# Altium integrated library Linear Technology Power Management Switching Regulator LT1074-LT8705.IntLib: 2252 symbols (part 118 of 148)
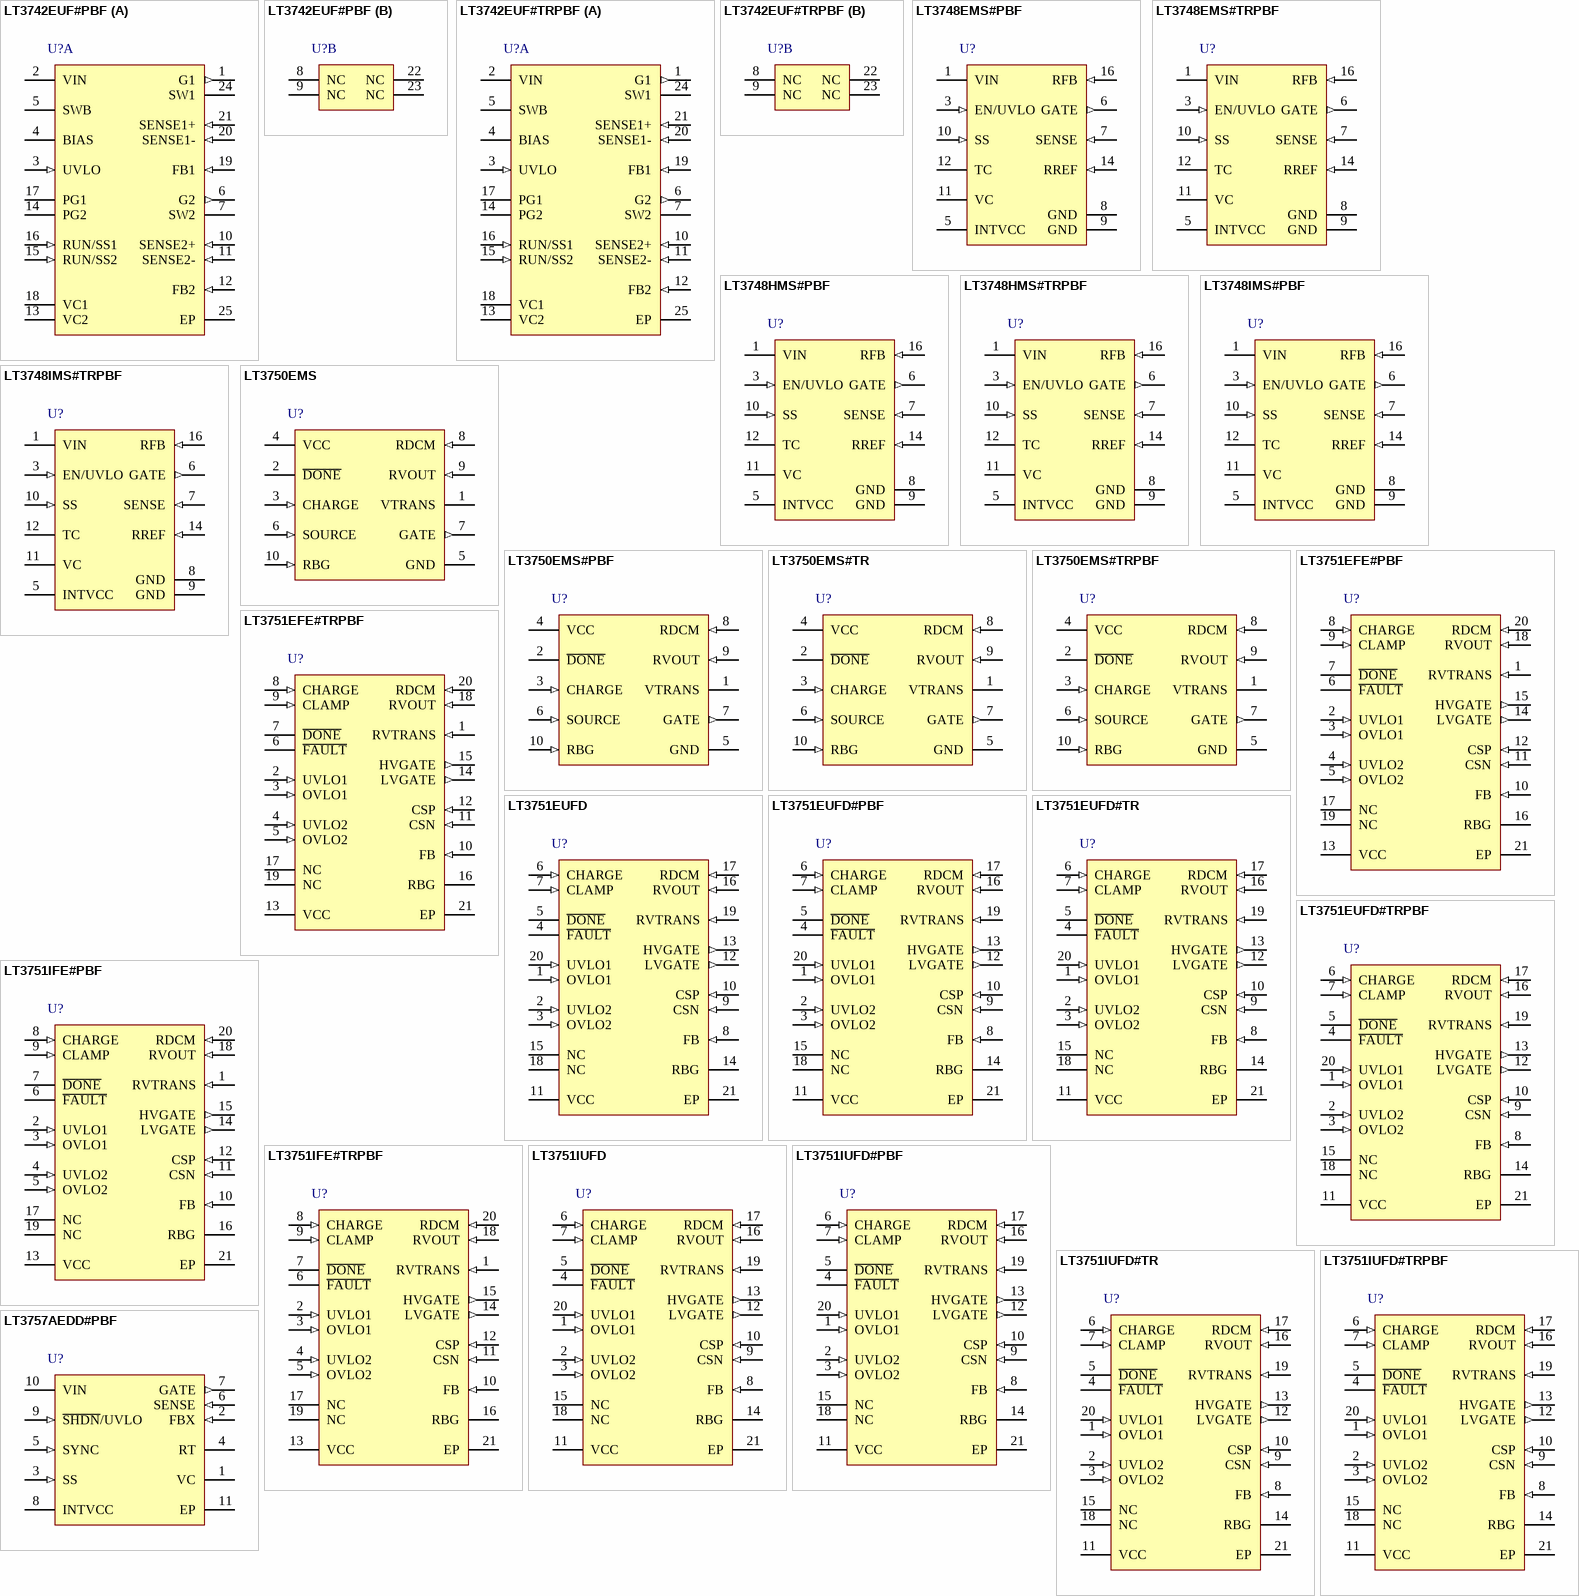
[diagram p188: symbols LT3742EUF#PBF to LT3757AEDD#PBF]

## LT3748IMS#PBF
designator U?
Isolated Flyback Controller, 16-pin SOP (MS-16), -40 to 125 degC, Pb-Free; Manufacturer: Linear Technology; PartNumber: LT3748IMS#PBF; Number of Outputs: 1; DatasheetVersion: Rev. A; PackageVersion: Rev. B, 05/2013; PackageReference: MS-16; PackageDescription: 12-Pin Plastic MSOP, Body 4.039 x 3 mm, Pitch 0.5 mm; Supplier 1: Digi-Key; Supplier Part Number 1: LT3748IMS#PBF-ND; Supplier 2: Farnell; Supplier Part Number 2: 1898624; Supplier 3: Newark; Supplier Part Number 3: 84R5101; RoHS: TRUE; Mounting Technology: Surface Mount; ComponentLink1Description: Manufacturer URL; ComponentLink1URL: http://www.linear.com/; ComponentLink2Description: Datasheet; ComponentLink2URL: http://cds.linear.com/docs/en/datasheet/3748fa.pdf; ComponentLink3Description: Package Specification; ComponentLink3URL: http://cds.linear.com/docs/en/packaging/05081847_B_MS16(12).pdf
footprint LT-MS-16-4PR_N (SOP, 12-Leads, Body 4.1x3.1mm, Pitch 0.5mm, IPC Medium Density)
footprint LT-MS-16-4PR_L (SOP, 12-Leads, Body 4.1x3.1mm, Pitch 0.5mm, IPC High Density)
footprint LT-MS-16-4PR_M (SOP, 12-Leads, Body 4.1x3.1mm, Pitch 0.5mm, IPC Low Density)
pins: 1 VIN (power) "Input Voltage. This pin supplies current to the internal start-up circuitry and is the reference voltage for the feedback circuitry connected to the RFB pin. This pin must be locally bypassed with a capacitor.", 3 EN/UVLO (in), 5 INTVCC (power) "Gate Driver Bias Voltage. This pin supplies current to the internal gate driver circuitry of the LT3748. The INTVCC pin must be locally bypassed with a capacitor. This pin may also be connected to VIN if a third winding is (See Datasheet)", 6 GATE (out) "N-Channel MOSFET Gate Driver Output. Switches between INTVCC and GND.", 7 SENSE (in) "The Current Sense Input for the Control Loop. Kelvin connect this pin to the positive terminal of the switch current sense resistor, RSENSE, in the source of the N-channel MOSFET. The negative terminal of the current sense (See Datasheet)", 8 GND (power) "Ground.", 9 GND (power) "Ground.", 10 SS (in) "Soft-Start Pin. This pin delays start-up and clamps VC pin voltage. Soft-start timing is set by the size of the external capacitor at the pin. Switching starts when VSS reaches ~0.65V.", 11 VC "Compensation Pin for the Internal Error Amplifier. Connect a series RC from this pin to ground to compensate the switching regulator. A 100pF capacitor in parallel helps eliminate noise.", 12 TC "Output Voltage Temperature Compensation. Connect a resistor to ground to produce a current proportional to absolute temperature to be sourced into the RREF node. ITC = 0.55V/RTC.", 14 RREF (in) "Input Pin for the External Ground-Referred Reference Resistor. The resistor at this pin should be 6.04k, but for convenience in selecting a resistor divider ratio, the value may range from 5.76k to 6.34k. The resistor should (See Datasheet)", 16 RFB (in) "Input Pin for the External Feedback Resistor. This pin is connected to the transformer primary at the external MOSFET power switch. The ratio of this resistor to the RREF resistor, times the internal bandgap reference, (See Datasheet)"

## LT3748IMS#TRPBF
designator U?
Isolated Flyback Controller, 16-pin SOP (MS-16), -40 to 125 degC, Pb-Free, Tape and Reel; Manufacturer: Linear Technology; PartNumber: LT3748IMS#TRPBF; Number of Outputs: 1; DatasheetVersion: Rev. A; PackageVersion: Rev. B, 05/2013; PackageReference: MS-16; PackageDescription: 12-Pin Plastic MSOP, Body 4.039 x 3 mm, Pitch 0.5 mm; Supplier 1: Digi-Key; Supplier Part Number 1: LT3748IMS#TRPBF-ND; Supplier 2: Newark; Supplier Part Number 2: 84R5102; Packing: Tape and Reel; RoHS: TRUE; Mounting Technology: Surface Mount; ComponentLink1Description: Manufacturer URL; ComponentLink1URL: http://www.linear.com/; ComponentLink2Description: Datasheet; ComponentLink2URL: http://cds.linear.com/docs/en/datasheet/3748fa.pdf; ComponentLink3Description: Package Specification; ComponentLink3URL: http://cds.linear.com/docs/en/packaging/05081847_B_MS16(12).pdf
footprint LT-MS-16-4PR_N (SOP, 12-Leads, Body 4.1x3.1mm, Pitch 0.5mm, IPC Medium Density)
footprint LT-MS-16-4PR_L (SOP, 12-Leads, Body 4.1x3.1mm, Pitch 0.5mm, IPC High Density)
footprint LT-MS-16-4PR_M (SOP, 12-Leads, Body 4.1x3.1mm, Pitch 0.5mm, IPC Low Density)
pins: 1 VIN (power) "Input Voltage. This pin supplies current to the internal start-up circuitry and is the reference voltage for the feedback circuitry connected to the RFB pin. This pin must be locally bypassed with a capacitor.", 3 EN/UVLO (in), 5 INTVCC (power) "Gate Driver Bias Voltage. This pin supplies current to the internal gate driver circuitry of the LT3748. The INTVCC pin must be locally bypassed with a capacitor. This pin may also be connected to VIN if a third winding is (See Datasheet)", 6 GATE (out) "N-Channel MOSFET Gate Driver Output. Switches between INTVCC and GND.", 7 SENSE (in) "The Current Sense Input for the Control Loop. Kelvin connect this pin to the positive terminal of the switch current sense resistor, RSENSE, in the source of the N-channel MOSFET. The negative terminal of the current sense (See Datasheet)", 8 GND (power) "Ground.", 9 GND (power) "Ground.", 10 SS (in) "Soft-Start Pin. This pin delays start-up and clamps VC pin voltage. Soft-start timing is set by the size of the external capacitor at the pin. Switching starts when VSS reaches ~0.65V.", 11 VC "Compensation Pin for the Internal Error Amplifier. Connect a series RC from this pin to ground to compensate the switching regulator. A 100pF capacitor in parallel helps eliminate noise.", 12 TC "Output Voltage Temperature Compensation. Connect a resistor to ground to produce a current proportional to absolute temperature to be sourced into the RREF node. ITC = 0.55V/RTC.", 14 RREF (in) "Input Pin for the External Ground-Referred Reference Resistor. The resistor at this pin should be 6.04k, but for convenience in selecting a resistor divider ratio, the value may range from 5.76k to 6.34k. The resistor should (See Datasheet)", 16 RFB (in) "Input Pin for the External Feedback Resistor. This pin is connected to the transformer primary at the external MOSFET power switch. The ratio of this resistor to the RREF resistor, times the internal bandgap reference, (See Datasheet)"

## LT3750EMS
designator U?
Capacitor Charger Controller, 10-pin SOP (MS-10), -40 to 85 degC; Manufacturer: Linear Technology; PartNumber: LT3750EMS; Number of Outputs: 1; DatasheetVersion: Rev. A; PackageVersion: Rev. E, 06/2010; PackageReference: MS-10; PackageDescription: 10-Pin Plastic MSOP, Body 3 x 3 mm, Pitch 0.5 mm; Supplier 1: Newark; Supplier Part Number 1: 57M8590; RoHS: FALSE; Mounting Technology: Surface Mount; ComponentLink1Description: Manufacturer URL; ComponentLink1URL: http://www.linear.com/; ComponentLink2Description: Datasheet; ComponentLink2URL: http://cds.linear.com/docs/en/datasheet/3750fa.pdf; ComponentLink3Description: Package Specification; ComponentLink3URL: http://cds.linear.com/docs/en/packaging/05081661_F_MS.pdf
footprint LT-MS-10_N (SOP, 10-Leads, Body 3.1x3.1mm, Pitch 0.5mm, IPC Medium Density)
footprint LT-MS-10_L (SOP, 10-Leads, Body 3.1x3.1mm, Pitch 0.5mm, IPC High Density)
footprint LT-MS-10_M (SOP, 10-Leads, Body 3.1x3.1mm, Pitch 0.5mm, IPC Low Density)
pins: 1 VTRANS (power) "Transformer Supply Pin. Powers the primary coil of the transformer as well as internal circuitry that performs boundary mode detection. Bypass at the pin with a 1uF to 10uF capacitor. Bypass the primary winding of the (See Datasheet)", 2 ~{DONE} (oc) "Open Collector Indication Pin. When target output voltage is reached, an NPN transistor turns on. Requires a pull-up resistor or current source. Any fault conditions such as thermal shutdown or undervoltage lockout will also (See Datasheet)", 3 CHARGE (in) "Charge Pin. Initiates a new charge cycle when brought high or discontinues charging and puts part into shutdown when low. To properly enable the device, a step input with a minimum ramp rate of 1V/us is required. Drive to 1.(See Datasheet)", 4 VCC (power) "Input Supply Pin. Bypass locally with a ceramic capacitor. A 1uF to 10uF ceramic capacitor should be sufficient for most applications.", 5 GND (power) "Ground Pin. Connect directly to local ground plane.", 6 SOURCE (in) "Source Pin. Senses NMOS drain current. Connect NMOS source terminal and current sense resistor to this pin. The current limit is 78mV/RSENSE.", 7 GATE (out) "Gate Pin. Connect NMOS gate terminal to this pin. Internal gate driver will drive voltage to within VCC - 2V during each switching cycle.", 8 RDCM (in) "Discontinuous Mode Sense Pin. Senses when current in transformer has decayed to zero and initiates a new charge cycle if output voltage target has not been reached. Place a resistor between this pin and the drain of the NMOS.(See Datasheet)", 9 RVOUT (in) "Output Voltage VI Converter Pin. Develops a current proportional to output capacitor voltage. Connect a resistor between this pin and the drain of the NMOS.", 10 RBG (in) "Output Voltage Sense Pin. Senses the voltage across the RBG resistor, which is proportional to the current flowing into the RVOUT pin. When voltage equals 1.24V, charging is disabled and D\O\N\E\ pin goes low. Connect a (See Datasheet)"

## LT3750EMS#PBF
designator U?
Capacitor Charger Controller, 10-pin SOP (MS-10), -40 to 85 degC, Pb-Free; Manufacturer: Linear Technology; PartNumber: LT3750EMS#PBF; Number of Outputs: 1; DatasheetVersion: Rev. A; PackageVersion: Rev. E, 06/2010; PackageReference: MS-10; PackageDescription: 10-Pin Plastic MSOP, Body 3 x 3 mm, Pitch 0.5 mm; Supplier 1: Digi-Key; Supplier Part Number 1: LT3750EMS#PBF-ND; Supplier 2: Farnell; Supplier Part Number 2: 1273500; Supplier 3: Newark; Supplier Part Number 3: 57M8591; RoHS: TRUE; Mounting Technology: Surface Mount; ComponentLink1Description: Manufacturer URL; ComponentLink1URL: http://www.linear.com/; ComponentLink2Description: Datasheet; ComponentLink2URL: http://cds.linear.com/docs/en/datasheet/3750fa.pdf; ComponentLink3Description: Package Specification; ComponentLink3URL: http://cds.linear.com/docs/en/packaging/05081661_F_MS.pdf
footprint LT-MS-10_N (SOP, 10-Leads, Body 3.1x3.1mm, Pitch 0.5mm, IPC Medium Density)
footprint LT-MS-10_L (SOP, 10-Leads, Body 3.1x3.1mm, Pitch 0.5mm, IPC High Density)
footprint LT-MS-10_M (SOP, 10-Leads, Body 3.1x3.1mm, Pitch 0.5mm, IPC Low Density)
pins: 1 VTRANS (power) "Transformer Supply Pin. Powers the primary coil of the transformer as well as internal circuitry that performs boundary mode detection. Bypass at the pin with a 1uF to 10uF capacitor. Bypass the primary winding of the (See Datasheet)", 2 ~{DONE} (oc) "Open Collector Indication Pin. When target output voltage is reached, an NPN transistor turns on. Requires a pull-up resistor or current source. Any fault conditions such as thermal shutdown or undervoltage lockout will also (See Datasheet)", 3 CHARGE (in) "Charge Pin. Initiates a new charge cycle when brought high or discontinues charging and puts part into shutdown when low. To properly enable the device, a step input with a minimum ramp rate of 1V/us is required. Drive to 1.(See Datasheet)", 4 VCC (power) "Input Supply Pin. Bypass locally with a ceramic capacitor. A 1uF to 10uF ceramic capacitor should be sufficient for most applications.", 5 GND (power) "Ground Pin. Connect directly to local ground plane.", 6 SOURCE (in) "Source Pin. Senses NMOS drain current. Connect NMOS source terminal and current sense resistor to this pin. The current limit is 78mV/RSENSE.", 7 GATE (out) "Gate Pin. Connect NMOS gate terminal to this pin. Internal gate driver will drive voltage to within VCC - 2V during each switching cycle.", 8 RDCM (in) "Discontinuous Mode Sense Pin. Senses when current in transformer has decayed to zero and initiates a new charge cycle if output voltage target has not been reached. Place a resistor between this pin and the drain of the NMOS.(See Datasheet)", 9 RVOUT (in) "Output Voltage VI Converter Pin. Develops a current proportional to output capacitor voltage. Connect a resistor between this pin and the drain of the NMOS.", 10 RBG (in) "Output Voltage Sense Pin. Senses the voltage across the RBG resistor, which is proportional to the current flowing into the RVOUT pin. When voltage equals 1.24V, charging is disabled and D\O\N\E\ pin goes low. Connect a (See Datasheet)"

## LT3750EMS#TR
designator U?
Capacitor Charger Controller, 10-pin SOP (MS-10), -40 to 85 degC, Tape and Reel; Manufacturer: Linear Technology; PartNumber: LT3750EMS#TR; Number of Outputs: 1; DatasheetVersion: Rev. A; PackageVersion: Rev. E, 06/2010; PackageReference: MS-10; PackageDescription: 10-Pin Plastic MSOP, Body 3 x 3 mm, Pitch 0.5 mm; Packing: Tape and Reel; RoHS: FALSE; Mounting Technology: Surface Mount; ComponentLink1Description: Manufacturer URL; ComponentLink1URL: http://www.linear.com/; ComponentLink2Description: Datasheet; ComponentLink2URL: http://cds.linear.com/docs/en/datasheet/3750fa.pdf; ComponentLink3Description: Package Specification; ComponentLink3URL: http://cds.linear.com/docs/en/packaging/05081661_F_MS.pdf
footprint LT-MS-10_N (SOP, 10-Leads, Body 3.1x3.1mm, Pitch 0.5mm, IPC Medium Density)
footprint LT-MS-10_L (SOP, 10-Leads, Body 3.1x3.1mm, Pitch 0.5mm, IPC High Density)
footprint LT-MS-10_M (SOP, 10-Leads, Body 3.1x3.1mm, Pitch 0.5mm, IPC Low Density)
pins: 1 VTRANS (power) "Transformer Supply Pin. Powers the primary coil of the transformer as well as internal circuitry that performs boundary mode detection. Bypass at the pin with a 1uF to 10uF capacitor. Bypass the primary winding of the (See Datasheet)", 2 ~{DONE} (oc) "Open Collector Indication Pin. When target output voltage is reached, an NPN transistor turns on. Requires a pull-up resistor or current source. Any fault conditions such as thermal shutdown or undervoltage lockout will also (See Datasheet)", 3 CHARGE (in) "Charge Pin. Initiates a new charge cycle when brought high or discontinues charging and puts part into shutdown when low. To properly enable the device, a step input with a minimum ramp rate of 1V/us is required. Drive to 1.(See Datasheet)", 4 VCC (power) "Input Supply Pin. Bypass locally with a ceramic capacitor. A 1uF to 10uF ceramic capacitor should be sufficient for most applications.", 5 GND (power) "Ground Pin. Connect directly to local ground plane.", 6 SOURCE (in) "Source Pin. Senses NMOS drain current. Connect NMOS source terminal and current sense resistor to this pin. The current limit is 78mV/RSENSE.", 7 GATE (out) "Gate Pin. Connect NMOS gate terminal to this pin. Internal gate driver will drive voltage to within VCC - 2V during each switching cycle.", 8 RDCM (in) "Discontinuous Mode Sense Pin. Senses when current in transformer has decayed to zero and initiates a new charge cycle if output voltage target has not been reached. Place a resistor between this pin and the drain of the NMOS.(See Datasheet)", 9 RVOUT (in) "Output Voltage VI Converter Pin. Develops a current proportional to output capacitor voltage. Connect a resistor between this pin and the drain of the NMOS.", 10 RBG (in) "Output Voltage Sense Pin. Senses the voltage across the RBG resistor, which is proportional to the current flowing into the RVOUT pin. When voltage equals 1.24V, charging is disabled and D\O\N\E\ pin goes low. Connect a (See Datasheet)"

## LT3750EMS#TRPBF
designator U?
Capacitor Charger Controller, 10-pin SOP (MS-10), -40 to 85 degC, Pb-Free, Tape and Reel; Manufacturer: Linear Technology; PartNumber: LT3750EMS#TRPBF; Number of Outputs: 1; DatasheetVersion: Rev. A; PackageVersion: Rev. E, 06/2010; PackageReference: MS-10; PackageDescription: 10-Pin Plastic MSOP, Body 3 x 3 mm, Pitch 0.5 mm; Supplier 1: Digi-Key; Supplier Part Number 1: LT3750EMS#TRPBF-ND; Supplier 2: Newark; Supplier Part Number 2: 57M8593; Packing: Tape and Reel; RoHS: TRUE; Mounting Technology: Surface Mount; ComponentLink1Description: Manufacturer URL; ComponentLink1URL: http://www.linear.com/; ComponentLink2Description: Datasheet; ComponentLink2URL: http://cds.linear.com/docs/en/datasheet/3750fa.pdf; ComponentLink3Description: Package Specification; ComponentLink3URL: http://cds.linear.com/docs/en/packaging/05081661_F_MS.pdf
footprint LT-MS-10_N (SOP, 10-Leads, Body 3.1x3.1mm, Pitch 0.5mm, IPC Medium Density)
footprint LT-MS-10_L (SOP, 10-Leads, Body 3.1x3.1mm, Pitch 0.5mm, IPC High Density)
footprint LT-MS-10_M (SOP, 10-Leads, Body 3.1x3.1mm, Pitch 0.5mm, IPC Low Density)
pins: 1 VTRANS (power) "Transformer Supply Pin. Powers the primary coil of the transformer as well as internal circuitry that performs boundary mode detection. Bypass at the pin with a 1uF to 10uF capacitor. Bypass the primary winding of the (See Datasheet)", 2 ~{DONE} (oc) "Open Collector Indication Pin. When target output voltage is reached, an NPN transistor turns on. Requires a pull-up resistor or current source. Any fault conditions such as thermal shutdown or undervoltage lockout will also (See Datasheet)", 3 CHARGE (in) "Charge Pin. Initiates a new charge cycle when brought high or discontinues charging and puts part into shutdown when low. To properly enable the device, a step input with a minimum ramp rate of 1V/us is required. Drive to 1.(See Datasheet)", 4 VCC (power) "Input Supply Pin. Bypass locally with a ceramic capacitor. A 1uF to 10uF ceramic capacitor should be sufficient for most applications.", 5 GND (power) "Ground Pin. Connect directly to local ground plane.", 6 SOURCE (in) "Source Pin. Senses NMOS drain current. Connect NMOS source terminal and current sense resistor to this pin. The current limit is 78mV/RSENSE.", 7 GATE (out) "Gate Pin. Connect NMOS gate terminal to this pin. Internal gate driver will drive voltage to within VCC - 2V during each switching cycle.", 8 RDCM (in) "Discontinuous Mode Sense Pin. Senses when current in transformer has decayed to zero and initiates a new charge cycle if output voltage target has not been reached. Place a resistor between this pin and the drain of the NMOS.(See Datasheet)", 9 RVOUT (in) "Output Voltage VI Converter Pin. Develops a current proportional to output capacitor voltage. Connect a resistor between this pin and the drain of the NMOS.", 10 RBG (in) "Output Voltage Sense Pin. Senses the voltage across the RBG resistor, which is proportional to the current flowing into the RVOUT pin. When voltage equals 1.24V, charging is disabled and D\O\N\E\ pin goes low. Connect a (See Datasheet)"

## LT3751EFE#PBF
designator U?
Capacitor Charger Controller with Regulation, 20-pin SOP (FE-20-EPV-CB), -40 to 125 degC, Pb-Free; Manufacturer: Linear Technology; PartNumber: LT3751EFE#PBF; Number of Outputs: 1; DatasheetVersion: Rev. C; PackageVersion: Rev. I, 05/2011; PackageReference: FE-20; PackageDescription: 20-Pin Plastic TSSOP, Body 6.5 x 4.4 mm, Pitch 0.65 mm; Supplier 1: Digi-Key; Supplier Part Number 1: LT3751EFE#PBF-ND; Supplier 2: Newark; Supplier Part Number 2: 05R7693; RoHS: TRUE; Mounting Technology: Surface Mount; ComponentLink1Description: Manufacturer URL; ComponentLink1URL: http://www.linear.com/; ComponentLink2Description: Datasheet; ComponentLink2URL: http://cds.linear.com/docs/en/datasheet/3751fc.pdf; ComponentLink3Description: Package Specification; ComponentLink3URL: http://cds.linear.com/docs/en/packaging/05081663__J_FE20(CB).pdf
footprint LT-FE-20-EPV-CB_N (SOP, 20-Leads, Body 6.6x4.5mm, Pitch 0.65mm, Thermal Pad 3.86x2.74mm, IPC Medium Density)
footprint LT-FE-20-EPV-CB_L (SOP, 20-Leads, Body 6.6x4.5mm, Pitch 0.65mm, Thermal Pad 3.86x2.74mm, IPC High Density)
footprint LT-FE-20-EPV-CB_M (SOP, 20-Leads, Body 6.6x4.5mm, Pitch 0.65mm, Thermal Pad 3.86x2.74mm, IPC Low Density)
pins: 1 RVTRANS (in) "Transformer Supply Sense Pin. Connect a resistor between the RVTRANS pin and the VTRANS supply. Refer to Table 2 for proper sizing of the RVTRANS resistor. The minimum operation voltage for VTRANS is 4.75V.", 2 UVLO1 (in) "VTRANS Undervoltage Lockout Pin. Senses when VTRANS drops below: VUVLO1 = 1.225+ 50uA •RUVLO1 and trips the F\A\U\L\T\ latch low, disabling switching. After VTRANS rises above VUVLO1, toggling the CHARGE pin reactivate(See Datasheet)", 3 OVLO1 (in) "VTRANS Overvoltage Lockout Pin. Senses when VTRANS rises above: VOVLO1 = 1.225+ 50uA •ROVLO1 and trips the F\A\U\L\T\ latch low, disabling switching. After VTRANS drops below VOVLO1, toggling the CHARGE pin reactivate(See Datasheet)", 4 UVLO2 (in) "VCC Undervoltage Lockout Pin. Senses when VCC drops below: VUVLO2 = 1.225+ 50uA •RUVLO2 and trips the F\A\U\L\T\ latch low, disabling switching. After VCC rises above VUVLO2, toggling the CHARGE pin reactivates switching.", 5 OVLO2 (in) "VCC Overvoltage Lockout Pin. Senses when VCC rises above: VOVLO2 = 1.225+ 50uA •ROVLO2 and trips the F\A\U\L\T\ latch low, disabling switching. After VCC drops below VOVLO2, toggling the CHARGE pin reactivates switching.", 6 ~{FAULT} (oc) "Open Collector Indication Pin. When either VTRANS or VCC exceeds the user-selected voltage range, or an internal UVLO condition occurs, a transistor turns on. The part will stop switching. This pin needs a proper pull-up (See Datasheet)", 7 ~{DONE} (oc) "Open Collector Indication Pin. When the target output voltage (charge mode) is reached or the F\A\U\L\T\ pin goes low, a transistor turns on. This pin needs a proper pull-up resistor or current source.", 8 CHARGE (in) "Charge Pin. Initiates a new charge cycle (charge mode) or enables the part (regulation mode) when driven higher than 1.5V. Bring this pin below 0.3V to discontinue charging and put the part into shutdown. Turn-on ramp rates (See Datasheet)", 9 CLAMP (in) "Internal Clamp Voltage Selection Pin. Tie this pin to VCC to activate the internal 5.6V gate driver clamp. Tie this pin to ground to activate the internal 10.5V gate driver clamp.", 10 FB (in) "Feedback Regulation Pin. Use this pin to achieve low noise voltage regulation. FB is internally regulated to 1.22V when a resistive divider is tied from this pin to the output. FB pin should not float. Tie FB pin to either a (See Datasheet)", 11 CSN (in) "Negative Current Sense Pin. Senses external NMOS source current. Connect to local RSENSE ground connection for proper Kelvin sensing. The current limit is set by 106mV/RSENSE.", 12 CSP (in) "Positive Current Sense Pin. Senses NMOS source current. Connect the NMOS source terminal and the current sense resistor to this pin. The current limit is fixed at 106mV/RSENSE in charge mode. The current limit can be reduced (See Datasheet)", 13 VCC (power) "Input Supply Pin. Must be locally bypassed with high grade (X5R or better) ceramic capacitor. The minimum operating voltage for VCC is 4.75V.", 14 LVGATE (out) "Low Voltage Gate Pin. Connect the NMOS gate terminal to this pin when operating VCC below 8V. The internal gate driver will drive the voltage to the VCC rail. When operating VCC higher than 8V, tie this pin directly to VCC.", 15 HVGATE (out) "High Voltage Gate Pin. Connect NMOS gate terminal to this pin for all VCC operating voltages. Internal gate driver will drive the voltage to within VCC -2V during each switch cycle.", 16 RBG "Bias Generation Pin. Generates a bias current set by 0.98V/RBG. Select RBG to achieve desired resistance for RDCM, RVOUT, and RVTRANS.", 17 NC "No Connection.", 18 RVOUT (in) "Output Voltage Sense Pin. Develops a current proportional to the output capacitor voltage.", 19 NC "No Connection.", 20 RDCM (in) "Discontinuous Mode Sense Pin. Senses when the external NMOS drain is equal to 20uA ?RDCM + VTRANS and initiates the next switch cycle. Place a resistor equal to 0.45 times the resistor on the RVTRANS pin between this pi(See Datasheet)", 21 EP (power) "Ground. Tie directly to local ground plane."

## LT3751EFE#TRPBF
designator U?
Capacitor Charger Controller with Regulation, 20-pin SOP (FE-20-EPV-CB), -40 to 125 degC, Pb-Free, Tape and Reel; Manufacturer: Linear Technology; PartNumber: LT3751EFE#TRPBF; Number of Outputs: 1; DatasheetVersion: Rev. C; PackageVersion: Rev. I, 05/2011; PackageReference: FE-20; PackageDescription: 20-Pin Plastic TSSOP, Body 6.5 x 4.4 mm, Pitch 0.65 mm; Supplier 1: Digi-Key; Supplier Part Number 1: LT3751EFE#TRPBF-ND; Packing: Tape and Reel; RoHS: TRUE; Mounting Technology: Surface Mount; ComponentLink1Description: Manufacturer URL; ComponentLink1URL: http://www.linear.com/; ComponentLink2Description: Datasheet; ComponentLink2URL: http://cds.linear.com/docs/en/datasheet/3751fc.pdf; ComponentLink3Description: Package Specification; ComponentLink3URL: http://cds.linear.com/docs/en/packaging/05081663__J_FE20(CB).pdf
footprint LT-FE-20-EPV-CB_N (SOP, 20-Leads, Body 6.6x4.5mm, Pitch 0.65mm, Thermal Pad 3.86x2.74mm, IPC Medium Density)
footprint LT-FE-20-EPV-CB_L (SOP, 20-Leads, Body 6.6x4.5mm, Pitch 0.65mm, Thermal Pad 3.86x2.74mm, IPC High Density)
footprint LT-FE-20-EPV-CB_M (SOP, 20-Leads, Body 6.6x4.5mm, Pitch 0.65mm, Thermal Pad 3.86x2.74mm, IPC Low Density)
pins: 1 RVTRANS (in) "Transformer Supply Sense Pin. Connect a resistor between the RVTRANS pin and the VTRANS supply. Refer to Table 2 for proper sizing of the RVTRANS resistor. The minimum operation voltage for VTRANS is 4.75V.", 2 UVLO1 (in) "VTRANS Undervoltage Lockout Pin. Senses when VTRANS drops below: VUVLO1 = 1.225+ 50uA •RUVLO1 and trips the F\A\U\L\T\ latch low, disabling switching. After VTRANS rises above VUVLO1, toggling the CHARGE pin reactivate(See Datasheet)", 3 OVLO1 (in) "VTRANS Overvoltage Lockout Pin. Senses when VTRANS rises above: VOVLO1 = 1.225+ 50uA •ROVLO1 and trips the F\A\U\L\T\ latch low, disabling switching. After VTRANS drops below VOVLO1, toggling the CHARGE pin reactivate(See Datasheet)", 4 UVLO2 (in) "VCC Undervoltage Lockout Pin. Senses when VCC drops below: VUVLO2 = 1.225+ 50uA •RUVLO2 and trips the F\A\U\L\T\ latch low, disabling switching. After VCC rises above VUVLO2, toggling the CHARGE pin reactivates switching.", 5 OVLO2 (in) "VCC Overvoltage Lockout Pin. Senses when VCC rises above: VOVLO2 = 1.225+ 50uA •ROVLO2 and trips the F\A\U\L\T\ latch low, disabling switching. After VCC drops below VOVLO2, toggling the CHARGE pin reactivates switching.", 6 ~{FAULT} (oc) "Open Collector Indication Pin. When either VTRANS or VCC exceeds the user-selected voltage range, or an internal UVLO condition occurs, a transistor turns on. The part will stop switching. This pin needs a proper pull-up (See Datasheet)", 7 ~{DONE} (oc) "Open Collector Indication Pin. When the target output voltage (charge mode) is reached or the F\A\U\L\T\ pin goes low, a transistor turns on. This pin needs a proper pull-up resistor or current source.", 8 CHARGE (in) "Charge Pin. Initiates a new charge cycle (charge mode) or enables the part (regulation mode) when driven higher than 1.5V. Bring this pin below 0.3V to discontinue charging and put the part into shutdown. Turn-on ramp rates (See Datasheet)", 9 CLAMP (in) "Internal Clamp Voltage Selection Pin. Tie this pin to VCC to activate the internal 5.6V gate driver clamp. Tie this pin to ground to activate the internal 10.5V gate driver clamp.", 10 FB (in) "Feedback Regulation Pin. Use this pin to achieve low noise voltage regulation. FB is internally regulated to 1.22V when a resistive divider is tied from this pin to the output. FB pin should not float. Tie FB pin to either a (See Datasheet)", 11 CSN (in) "Negative Current Sense Pin. Senses external NMOS source current. Connect to local RSENSE ground connection for proper Kelvin sensing. The current limit is set by 106mV/RSENSE.", 12 CSP (in) "Positive Current Sense Pin. Senses NMOS source current. Connect the NMOS source terminal and the current sense resistor to this pin. The current limit is fixed at 106mV/RSENSE in charge mode. The current limit can be reduced (See Datasheet)", 13 VCC (power) "Input Supply Pin. Must be locally bypassed with high grade (X5R or better) ceramic capacitor. The minimum operating voltage for VCC is 4.75V.", 14 LVGATE (out) "Low Voltage Gate Pin. Connect the NMOS gate terminal to this pin when operating VCC below 8V. The internal gate driver will drive the voltage to the VCC rail. When operating VCC higher than 8V, tie this pin directly to VCC.", 15 HVGATE (out) "High Voltage Gate Pin. Connect NMOS gate terminal to this pin for all VCC operating voltages. Internal gate driver will drive the voltage to within VCC -2V during each switch cycle.", 16 RBG "Bias Generation Pin. Generates a bias current set by 0.98V/RBG. Select RBG to achieve desired resistance for RDCM, RVOUT, and RVTRANS.", 17 NC "No Connection.", 18 RVOUT (in) "Output Voltage Sense Pin. Develops a current proportional to the output capacitor voltage.", 19 NC "No Connection.", 20 RDCM (in) "Discontinuous Mode Sense Pin. Senses when the external NMOS drain is equal to 20uA ?RDCM + VTRANS and initiates the next switch cycle. Place a resistor equal to 0.45 times the resistor on the RVTRANS pin between this pi(See Datasheet)", 21 EP (power) "Ground. Tie directly to local ground plane."

## LT3751EUFD
designator U?
Capacitor Charger Controller with Regulation, 20-pin QFN (UFD-20), -40 to 125 degC; Manufacturer: Linear Technology; PartNumber: LT3751EUFD; Number of Outputs: 1; DatasheetVersion: Rev. C; PackageVersion: Rev. B, 06/2010; PackageReference: UFD-20; PackageDescription: 20-Pin Plastic QFN, Body 5 x 4 mm, Pitch 0.5 mm; RoHS: FALSE; Mounting Technology: Surface Mount; Code_JEDEC: MO-220; ComponentLink1Description: Manufacturer URL; ComponentLink1URL: http://www.linear.com/; ComponentLink2Description: Datasheet; ComponentLink2URL: http://cds.linear.com/docs/en/datasheet/3751fc.pdf; ComponentLink3Description: Package Specification; ComponentLink3URL: http://cds.linear.com/docs/en/packaging/QFN_20_05-08-1711.pdf
footprint LT-UFD-20_N (QFN, 20-Leads, Body 5.1x4.1mm, Pitch 0.5mm, Thermal Pad 2.65x3.65mm, IPC Medium Density)
footprint LT-UFD-20_L (QFN, 20-Leads, Body 5.1x4.1mm, Pitch 0.5mm, Thermal Pad 2.65x3.65mm, IPC High Density)
footprint LT-UFD-20_M (QFN, 20-Leads, Body 5.1x4.1mm, Pitch 0.5mm, Thermal Pad 2.65x3.65mm, IPC Low Density)
pins: 1 OVLO1 (in) "VTRANS Overvoltage Lockout Pin. Senses when VTRANS rises above: VOVLO1 = 1.225+ 50uA •ROVLO1 and trips the F\A\U\L\T\ latch low, disabling switching. After VTRANS drops below VOVLO1, toggling the CHARGE pin reactivate(See Datasheet)", 2 UVLO2 (in) "VCC Undervoltage Lockout Pin. Senses when VCC drops below: VUVLO2 = 1.225+ 50uA •RUVLO2 and trips the F\A\U\L\T\ latch low, disabling switching. After VCC rises above VUVLO2, toggling the CHARGE pin reactivates switching.", 3 OVLO2 (in) "VCC Overvoltage Lockout Pin. Senses when VCC rises above: VOVLO2 = 1.225+ 50uA •ROVLO2 and trips the F\A\U\L\T\ latch low, disabling switching. After VCC drops below VOVLO2, toggling the CHARGE pin reactivates switching.", 4 ~{FAULT} (oc) "Open Collector Indication Pin. When either VTRANS or VCC exceeds the user-selected voltage range, or an internal UVLO condition occurs, a transistor turns on. The part will stop switching. This pin needs a proper pull-up (See Datasheet)", 5 ~{DONE} (oc) "Open Collector Indication Pin. When the target output voltage (charge mode) is reached or the F\A\U\L\T\ pin goes low, a transistor turns on. This pin needs a proper pull-up resistor or current source.", 6 CHARGE (in) "Charge Pin. Initiates a new charge cycle (charge mode) or enables the part (regulation mode) when driven higher than 1.5V. Bring this pin below 0.3V to discontinue charging and put the part into shutdown. Turn-on ramp rates (See Datasheet)", 7 CLAMP (in) "Internal Clamp Voltage Selection Pin. Tie this pin to VCC to activate the internal 5.6V gate driver clamp. Tie this pin to ground to activate the internal 10.5V gate driver clamp.", 8 FB (in) "Feedback Regulation Pin. Use this pin to achieve low noise voltage regulation. FB is internally regulated to 1.22V when a resistive divider is tied from this pin to the output. FB pin should not float. Tie FB pin to either a (See Datasheet)", 9 CSN (in) "Negative Current Sense Pin. Senses external NMOS source current. Connect to local RSENSE ground connection for proper Kelvin sensing. The current limit is set by 106mV/RSENSE.", 10 CSP (in) "Positive Current Sense Pin. Senses NMOS source current. Connect the NMOS source terminal and the current sense resistor to this pin. The current limit is fixed at 106mV/RSENSE in charge mode. The current limit can be reduced (See Datasheet)", 11 VCC (power) "Input Supply Pin. Must be locally bypassed with high grade (X5R or better) ceramic capacitor. The minimum operating voltage for VCC is 4.75V.", 12 LVGATE (out) "Low Voltage Gate Pin. Connect the NMOS gate terminal to this pin when operating VCC below 8V. The internal gate driver will drive the voltage to the VCC rail. When operating VCC higher than 8V, tie this pin directly to VCC.", 13 HVGATE (out) "High Voltage Gate Pin. Connect NMOS gate terminal to this pin for all VCC operating voltages. Internal gate driver will drive the voltage to within VCC -2V during each switch cycle.", 14 RBG "Bias Generation Pin. Generates a bias current set by 0.98V/RBG. Select RBG to achieve desired resistance for RDCM, RVOUT, and RVTRANS.", 15 NC "No Connection.", 16 RVOUT (in) "Output Voltage Sense Pin. Develops a current proportional to the output capacitor voltage.", 17 RDCM (in) "Discontinuous Mode Sense Pin. Senses when the external NMOS drain is equal to 20uA ?RDCM + VTRANS and initiates the next switch cycle. Place a resistor equal to 0.45 times the resistor on the RVTRANS pin between this pi(See Datasheet)", 18 NC "No Connection.", 19 RVTRANS (in) "Transformer Supply Sense Pin. Connect a resistor between the RVTRANS pin and the VTRANS supply. Refer to Table 2 for proper sizing of the RVTRANS resistor. The minimum operation voltage for VTRANS is 4.75V.", 20 UVLO1 (in) "VTRANS Undervoltage Lockout Pin. Senses when VTRANS drops below: VUVLO1 = 1.225+ 50uA •RUVLO1 and trips the F\A\U\L\T\ latch low, disabling switching. After VTRANS rises above VUVLO1, toggling the CHARGE pin reactivate(See Datasheet)", 21 EP (power) "Ground. Tie directly to local ground plane."

## LT3751EUFD#PBF
designator U?
Capacitor Charger Controller with Regulation, 20-pin QFN (UFD-20), -40 to 125 degC, Pb-Free; Manufacturer: Linear Technology; PartNumber: LT3751EUFD#PBF; Number of Outputs: 1; DatasheetVersion: Rev. C; PackageVersion: Rev. B, 06/2010; PackageReference: UFD-20; PackageDescription: 20-Pin Plastic QFN, Body 5 x 4 mm, Pitch 0.5 mm; Supplier 1: Digi-Key; Supplier Part Number 1: LT3751EUFD#PBF-ND; Supplier 2: Newark; Supplier Part Number 2: 31P7617; RoHS: TRUE; Mounting Technology: Surface Mount; Code_JEDEC: MO-220; ComponentLink1Description: Manufacturer URL; ComponentLink1URL: http://www.linear.com/; ComponentLink2Description: Datasheet; ComponentLink2URL: http://cds.linear.com/docs/en/datasheet/3751fc.pdf; ComponentLink3Description: Package Specification; ComponentLink3URL: http://cds.linear.com/docs/en/packaging/QFN_20_05-08-1711.pdf
footprint LT-UFD-20_N (QFN, 20-Leads, Body 5.1x4.1mm, Pitch 0.5mm, Thermal Pad 2.65x3.65mm, IPC Medium Density)
footprint LT-UFD-20_L (QFN, 20-Leads, Body 5.1x4.1mm, Pitch 0.5mm, Thermal Pad 2.65x3.65mm, IPC High Density)
footprint LT-UFD-20_M (QFN, 20-Leads, Body 5.1x4.1mm, Pitch 0.5mm, Thermal Pad 2.65x3.65mm, IPC Low Density)
pins: 1 OVLO1 (in) "VTRANS Overvoltage Lockout Pin. Senses when VTRANS rises above: VOVLO1 = 1.225+ 50uA •ROVLO1 and trips the F\A\U\L\T\ latch low, disabling switching. After VTRANS drops below VOVLO1, toggling the CHARGE pin reactivate(See Datasheet)", 2 UVLO2 (in) "VCC Undervoltage Lockout Pin. Senses when VCC drops below: VUVLO2 = 1.225+ 50uA •RUVLO2 and trips the F\A\U\L\T\ latch low, disabling switching. After VCC rises above VUVLO2, toggling the CHARGE pin reactivates switching.", 3 OVLO2 (in) "VCC Overvoltage Lockout Pin. Senses when VCC rises above: VOVLO2 = 1.225+ 50uA •ROVLO2 and trips the F\A\U\L\T\ latch low, disabling switching. After VCC drops below VOVLO2, toggling the CHARGE pin reactivates switching.", 4 ~{FAULT} (oc) "Open Collector Indication Pin. When either VTRANS or VCC exceeds the user-selected voltage range, or an internal UVLO condition occurs, a transistor turns on. The part will stop switching. This pin needs a proper pull-up (See Datasheet)", 5 ~{DONE} (oc) "Open Collector Indication Pin. When the target output voltage (charge mode) is reached or the F\A\U\L\T\ pin goes low, a transistor turns on. This pin needs a proper pull-up resistor or current source.", 6 CHARGE (in) "Charge Pin. Initiates a new charge cycle (charge mode) or enables the part (regulation mode) when driven higher than 1.5V. Bring this pin below 0.3V to discontinue charging and put the part into shutdown. Turn-on ramp rates (See Datasheet)", 7 CLAMP (in) "Internal Clamp Voltage Selection Pin. Tie this pin to VCC to activate the internal 5.6V gate driver clamp. Tie this pin to ground to activate the internal 10.5V gate driver clamp.", 8 FB (in) "Feedback Regulation Pin. Use this pin to achieve low noise voltage regulation. FB is internally regulated to 1.22V when a resistive divider is tied from this pin to the output. FB pin should not float. Tie FB pin to either a (See Datasheet)", 9 CSN (in) "Negative Current Sense Pin. Senses external NMOS source current. Connect to local RSENSE ground connection for proper Kelvin sensing. The current limit is set by 106mV/RSENSE.", 10 CSP (in) "Positive Current Sense Pin. Senses NMOS source current. Connect the NMOS source terminal and the current sense resistor to this pin. The current limit is fixed at 106mV/RSENSE in charge mode. The current limit can be reduced (See Datasheet)", 11 VCC (power) "Input Supply Pin. Must be locally bypassed with high grade (X5R or better) ceramic capacitor. The minimum operating voltage for VCC is 4.75V.", 12 LVGATE (out) "Low Voltage Gate Pin. Connect the NMOS gate terminal to this pin when operating VCC below 8V. The internal gate driver will drive the voltage to the VCC rail. When operating VCC higher than 8V, tie this pin directly to VCC.", 13 HVGATE (out) "High Voltage Gate Pin. Connect NMOS gate terminal to this pin for all VCC operating voltages. Internal gate driver will drive the voltage to within VCC -2V during each switch cycle.", 14 RBG "Bias Generation Pin. Generates a bias current set by 0.98V/RBG. Select RBG to achieve desired resistance for RDCM, RVOUT, and RVTRANS.", 15 NC "No Connection.", 16 RVOUT (in) "Output Voltage Sense Pin. Develops a current proportional to the output capacitor voltage.", 17 RDCM (in) "Discontinuous Mode Sense Pin. Senses when the external NMOS drain is equal to 20uA ?RDCM + VTRANS and initiates the next switch cycle. Place a resistor equal to 0.45 times the resistor on the RVTRANS pin between this pi(See Datasheet)", 18 NC "No Connection.", 19 RVTRANS (in) "Transformer Supply Sense Pin. Connect a resistor between the RVTRANS pin and the VTRANS supply. Refer to Table 2 for proper sizing of the RVTRANS resistor. The minimum operation voltage for VTRANS is 4.75V.", 20 UVLO1 (in) "VTRANS Undervoltage Lockout Pin. Senses when VTRANS drops below: VUVLO1 = 1.225+ 50uA •RUVLO1 and trips the F\A\U\L\T\ latch low, disabling switching. After VTRANS rises above VUVLO1, toggling the CHARGE pin reactivate(See Datasheet)", 21 EP (power) "Ground. Tie directly to local ground plane."

## LT3751EUFD#TR
designator U?
Capacitor Charger Controller with Regulation, 20-pin QFN (UFD-20), -40 to 125 degC, Tape and Reel; Manufacturer: Linear Technology; PartNumber: LT3751EUFD#TR; Number of Outputs: 1; DatasheetVersion: Rev. C; PackageVersion: Rev. B, 06/2010; PackageReference: UFD-20; PackageDescription: 20-Pin Plastic QFN, Body 5 x 4 mm, Pitch 0.5 mm; Packing: Tape and Reel; RoHS: FALSE; Mounting Technology: Surface Mount; Code_JEDEC: MO-220; ComponentLink1Description: Manufacturer URL; ComponentLink1URL: http://www.linear.com/; ComponentLink2Description: Datasheet; ComponentLink2URL: http://cds.linear.com/docs/en/datasheet/3751fc.pdf; ComponentLink3Description: Package Specification; ComponentLink3URL: http://cds.linear.com/docs/en/packaging/QFN_20_05-08-1711.pdf
footprint LT-UFD-20_N (QFN, 20-Leads, Body 5.1x4.1mm, Pitch 0.5mm, Thermal Pad 2.65x3.65mm, IPC Medium Density)
footprint LT-UFD-20_L (QFN, 20-Leads, Body 5.1x4.1mm, Pitch 0.5mm, Thermal Pad 2.65x3.65mm, IPC High Density)
footprint LT-UFD-20_M (QFN, 20-Leads, Body 5.1x4.1mm, Pitch 0.5mm, Thermal Pad 2.65x3.65mm, IPC Low Density)
pins: 1 OVLO1 (in) "VTRANS Overvoltage Lockout Pin. Senses when VTRANS rises above: VOVLO1 = 1.225+ 50uA •ROVLO1 and trips the F\A\U\L\T\ latch low, disabling switching. After VTRANS drops below VOVLO1, toggling the CHARGE pin reactivate(See Datasheet)", 2 UVLO2 (in) "VCC Undervoltage Lockout Pin. Senses when VCC drops below: VUVLO2 = 1.225+ 50uA •RUVLO2 and trips the F\A\U\L\T\ latch low, disabling switching. After VCC rises above VUVLO2, toggling the CHARGE pin reactivates switching.", 3 OVLO2 (in) "VCC Overvoltage Lockout Pin. Senses when VCC rises above: VOVLO2 = 1.225+ 50uA •ROVLO2 and trips the F\A\U\L\T\ latch low, disabling switching. After VCC drops below VOVLO2, toggling the CHARGE pin reactivates switching.", 4 ~{FAULT} (oc) "Open Collector Indication Pin. When either VTRANS or VCC exceeds the user-selected voltage range, or an internal UVLO condition occurs, a transistor turns on. The part will stop switching. This pin needs a proper pull-up (See Datasheet)", 5 ~{DONE} (oc) "Open Collector Indication Pin. When the target output voltage (charge mode) is reached or the F\A\U\L\T\ pin goes low, a transistor turns on. This pin needs a proper pull-up resistor or current source.", 6 CHARGE (in) "Charge Pin. Initiates a new charge cycle (charge mode) or enables the part (regulation mode) when driven higher than 1.5V. Bring this pin below 0.3V to discontinue charging and put the part into shutdown. Turn-on ramp rates (See Datasheet)", 7 CLAMP (in) "Internal Clamp Voltage Selection Pin. Tie this pin to VCC to activate the internal 5.6V gate driver clamp. Tie this pin to ground to activate the internal 10.5V gate driver clamp.", 8 FB (in) "Feedback Regulation Pin. Use this pin to achieve low noise voltage regulation. FB is internally regulated to 1.22V when a resistive divider is tied from this pin to the output. FB pin should not float. Tie FB pin to either a (See Datasheet)", 9 CSN (in) "Negative Current Sense Pin. Senses external NMOS source current. Connect to local RSENSE ground connection for proper Kelvin sensing. The current limit is set by 106mV/RSENSE.", 10 CSP (in) "Positive Current Sense Pin. Senses NMOS source current. Connect the NMOS source terminal and the current sense resistor to this pin. The current limit is fixed at 106mV/RSENSE in charge mode. The current limit can be reduced (See Datasheet)", 11 VCC (power) "Input Supply Pin. Must be locally bypassed with high grade (X5R or better) ceramic capacitor. The minimum operating voltage for VCC is 4.75V.", 12 LVGATE (out) "Low Voltage Gate Pin. Connect the NMOS gate terminal to this pin when operating VCC below 8V. The internal gate driver will drive the voltage to the VCC rail. When operating VCC higher than 8V, tie this pin directly to VCC.", 13 HVGATE (out) "High Voltage Gate Pin. Connect NMOS gate terminal to this pin for all VCC operating voltages. Internal gate driver will drive the voltage to within VCC -2V during each switch cycle.", 14 RBG "Bias Generation Pin. Generates a bias current set by 0.98V/RBG. Select RBG to achieve desired resistance for RDCM, RVOUT, and RVTRANS.", 15 NC "No Connection.", 16 RVOUT (in) "Output Voltage Sense Pin. Develops a current proportional to the output capacitor voltage.", 17 RDCM (in) "Discontinuous Mode Sense Pin. Senses when the external NMOS drain is equal to 20uA ?RDCM + VTRANS and initiates the next switch cycle. Place a resistor equal to 0.45 times the resistor on the RVTRANS pin between this pi(See Datasheet)", 18 NC "No Connection.", 19 RVTRANS (in) "Transformer Supply Sense Pin. Connect a resistor between the RVTRANS pin and the VTRANS supply. Refer to Table 2 for proper sizing of the RVTRANS resistor. The minimum operation voltage for VTRANS is 4.75V.", 20 UVLO1 (in) "VTRANS Undervoltage Lockout Pin. Senses when VTRANS drops below: VUVLO1 = 1.225+ 50uA •RUVLO1 and trips the F\A\U\L\T\ latch low, disabling switching. After VTRANS rises above VUVLO1, toggling the CHARGE pin reactivate(See Datasheet)", 21 EP (power) "Ground. Tie directly to local ground plane."

## LT3751EUFD#TRPBF
designator U?
Capacitor Charger Controller with Regulation, 20-pin QFN (UFD-20), -40 to 125 degC, Pb-Free, Tape and Reel; Manufacturer: Linear Technology; PartNumber: LT3751EUFD#TRPBF; Number of Outputs: 1; DatasheetVersion: Rev. C; PackageVersion: Rev. B, 06/2010; PackageReference: UFD-20; PackageDescription: 20-Pin Plastic QFN, Body 5 x 4 mm, Pitch 0.5 mm; Supplier 1: Digi-Key; Supplier Part Number 1: LT3751EUFD#TRPBF-ND; Packing: Tape and Reel; RoHS: TRUE; Mounting Technology: Surface Mount; Code_JEDEC: MO-220; ComponentLink1Description: Manufacturer URL; ComponentLink1URL: http://www.linear.com/; ComponentLink2Description: Datasheet; ComponentLink2URL: http://cds.linear.com/docs/en/datasheet/3751fc.pdf; ComponentLink3Description: Package Specification; ComponentLink3URL: http://cds.linear.com/docs/en/packaging/QFN_20_05-08-1711.pdf
footprint LT-UFD-20_N (QFN, 20-Leads, Body 5.1x4.1mm, Pitch 0.5mm, Thermal Pad 2.65x3.65mm, IPC Medium Density)
footprint LT-UFD-20_L (QFN, 20-Leads, Body 5.1x4.1mm, Pitch 0.5mm, Thermal Pad 2.65x3.65mm, IPC High Density)
footprint LT-UFD-20_M (QFN, 20-Leads, Body 5.1x4.1mm, Pitch 0.5mm, Thermal Pad 2.65x3.65mm, IPC Low Density)
pins: 1 OVLO1 (in) "VTRANS Overvoltage Lockout Pin. Senses when VTRANS rises above: VOVLO1 = 1.225+ 50uA •ROVLO1 and trips the F\A\U\L\T\ latch low, disabling switching. After VTRANS drops below VOVLO1, toggling the CHARGE pin reactivate(See Datasheet)", 2 UVLO2 (in) "VCC Undervoltage Lockout Pin. Senses when VCC drops below: VUVLO2 = 1.225+ 50uA •RUVLO2 and trips the F\A\U\L\T\ latch low, disabling switching. After VCC rises above VUVLO2, toggling the CHARGE pin reactivates switching.", 3 OVLO2 (in) "VCC Overvoltage Lockout Pin. Senses when VCC rises above: VOVLO2 = 1.225+ 50uA •ROVLO2 and trips the F\A\U\L\T\ latch low, disabling switching. After VCC drops below VOVLO2, toggling the CHARGE pin reactivates switching.", 4 ~{FAULT} (oc) "Open Collector Indication Pin. When either VTRANS or VCC exceeds the user-selected voltage range, or an internal UVLO condition occurs, a transistor turns on. The part will stop switching. This pin needs a proper pull-up (See Datasheet)", 5 ~{DONE} (oc) "Open Collector Indication Pin. When the target output voltage (charge mode) is reached or the F\A\U\L\T\ pin goes low, a transistor turns on. This pin needs a proper pull-up resistor or current source.", 6 CHARGE (in) "Charge Pin. Initiates a new charge cycle (charge mode) or enables the part (regulation mode) when driven higher than 1.5V. Bring this pin below 0.3V to discontinue charging and put the part into shutdown. Turn-on ramp rates (See Datasheet)", 7 CLAMP (in) "Internal Clamp Voltage Selection Pin. Tie this pin to VCC to activate the internal 5.6V gate driver clamp. Tie this pin to ground to activate the internal 10.5V gate driver clamp.", 8 FB (in) "Feedback Regulation Pin. Use this pin to achieve low noise voltage regulation. FB is internally regulated to 1.22V when a resistive divider is tied from this pin to the output. FB pin should not float. Tie FB pin to either a (See Datasheet)", 9 CSN (in) "Negative Current Sense Pin. Senses external NMOS source current. Connect to local RSENSE ground connection for proper Kelvin sensing. The current limit is set by 106mV/RSENSE.", 10 CSP (in) "Positive Current Sense Pin. Senses NMOS source current. Connect the NMOS source terminal and the current sense resistor to this pin. The current limit is fixed at 106mV/RSENSE in charge mode. The current limit can be reduced (See Datasheet)", 11 VCC (power) "Input Supply Pin. Must be locally bypassed with high grade (X5R or better) ceramic capacitor. The minimum operating voltage for VCC is 4.75V.", 12 LVGATE (out) "Low Voltage Gate Pin. Connect the NMOS gate terminal to this pin when operating VCC below 8V. The internal gate driver will drive the voltage to the VCC rail. When operating VCC higher than 8V, tie this pin directly to VCC.", 13 HVGATE (out) "High Voltage Gate Pin. Connect NMOS gate terminal to this pin for all VCC operating voltages. Internal gate driver will drive the voltage to within VCC -2V during each switch cycle.", 14 RBG "Bias Generation Pin. Generates a bias current set by 0.98V/RBG. Select RBG to achieve desired resistance for RDCM, RVOUT, and RVTRANS.", 15 NC "No Connection.", 16 RVOUT (in) "Output Voltage Sense Pin. Develops a current proportional to the output capacitor voltage.", 17 RDCM (in) "Discontinuous Mode Sense Pin. Senses when the external NMOS drain is equal to 20uA ?RDCM + VTRANS and initiates the next switch cycle. Place a resistor equal to 0.45 times the resistor on the RVTRANS pin between this pi(See Datasheet)", 18 NC "No Connection.", 19 RVTRANS (in) "Transformer Supply Sense Pin. Connect a resistor between the RVTRANS pin and the VTRANS supply. Refer to Table 2 for proper sizing of the RVTRANS resistor. The minimum operation voltage for VTRANS is 4.75V.", 20 UVLO1 (in) "VTRANS Undervoltage Lockout Pin. Senses when VTRANS drops below: VUVLO1 = 1.225+ 50uA •RUVLO1 and trips the F\A\U\L\T\ latch low, disabling switching. After VTRANS rises above VUVLO1, toggling the CHARGE pin reactivate(See Datasheet)", 21 EP (power) "Ground. Tie directly to local ground plane."